# EAGLE library part AK5359 (library akm)
Audio ADC 192kHz, 24-Bit, 2ch, Delta Sigma
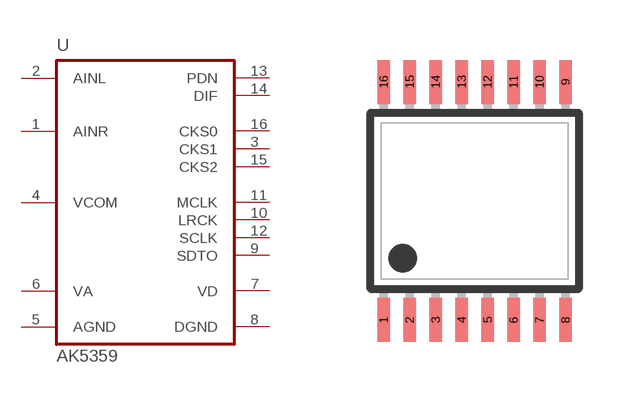
[diagram p22: symbol with the pads of TSSOP16; footprint TSSOP16]

Designator prefix U

## AK5359  [TSSOP16]
1  AINR  in
2  AINL  in
3  CKS1  in
4  VCOM  out
5  AGND  pwr
6  VA  pwr
7  VD  pwr
8  DGND  pwr
9  SDTO  out
10  LRCK
11  MCLK  in
12  SCLK
13  PDN  in
14  DIF  in
15  CKS2  in
16  CKS0  in

## Footprint TSSOP16 (pad centres in mm)
Thin Shrink Small Outline Plastic 16
smd 0.31 x 1.1: 1 -2.275,-2.98; 2 -1.625,-2.98; 3 -0.975,-2.98; 4 -0.325,-2.98; 5 0.325,-2.98; 6 0.975,-2.98; 7 1.625,-2.98; 8 2.275,-2.98; 9 2.275,2.98; 10 1.625,2.98; 11 0.975,2.98; 12 0.325,2.98; 13 -0.325,2.98; 14 -0.975,2.98; 15 -1.625,2.98; 16 -2.275,2.98